# Altium schematic symbol library CON12.SchLib: 1 symbol
Pins are listed as number, name and electrical type; pins without a type are passive.

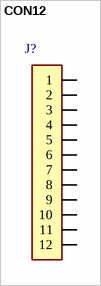
[diagram p0: symbol CON12]

## CON12
designator J?
footprint 12HDR_2mm
pins: 1, 2, 3, 4, 5, 6, 7, 8, 9, 10, 11, 12